# Altium footprint library 3d_design_approx.PcbLib: 32 footprints (part 1 of 2)
Each footprint in its own frame and in the unit in brackets; x right, y up, seen from the top. Pads: shape width x height; smd on the part's side, far side on the other; paste and mask are expansions set on the pad; w line width, h text height; cw(c..) or ccw(c..) is an arc to the next point about the centre after c.
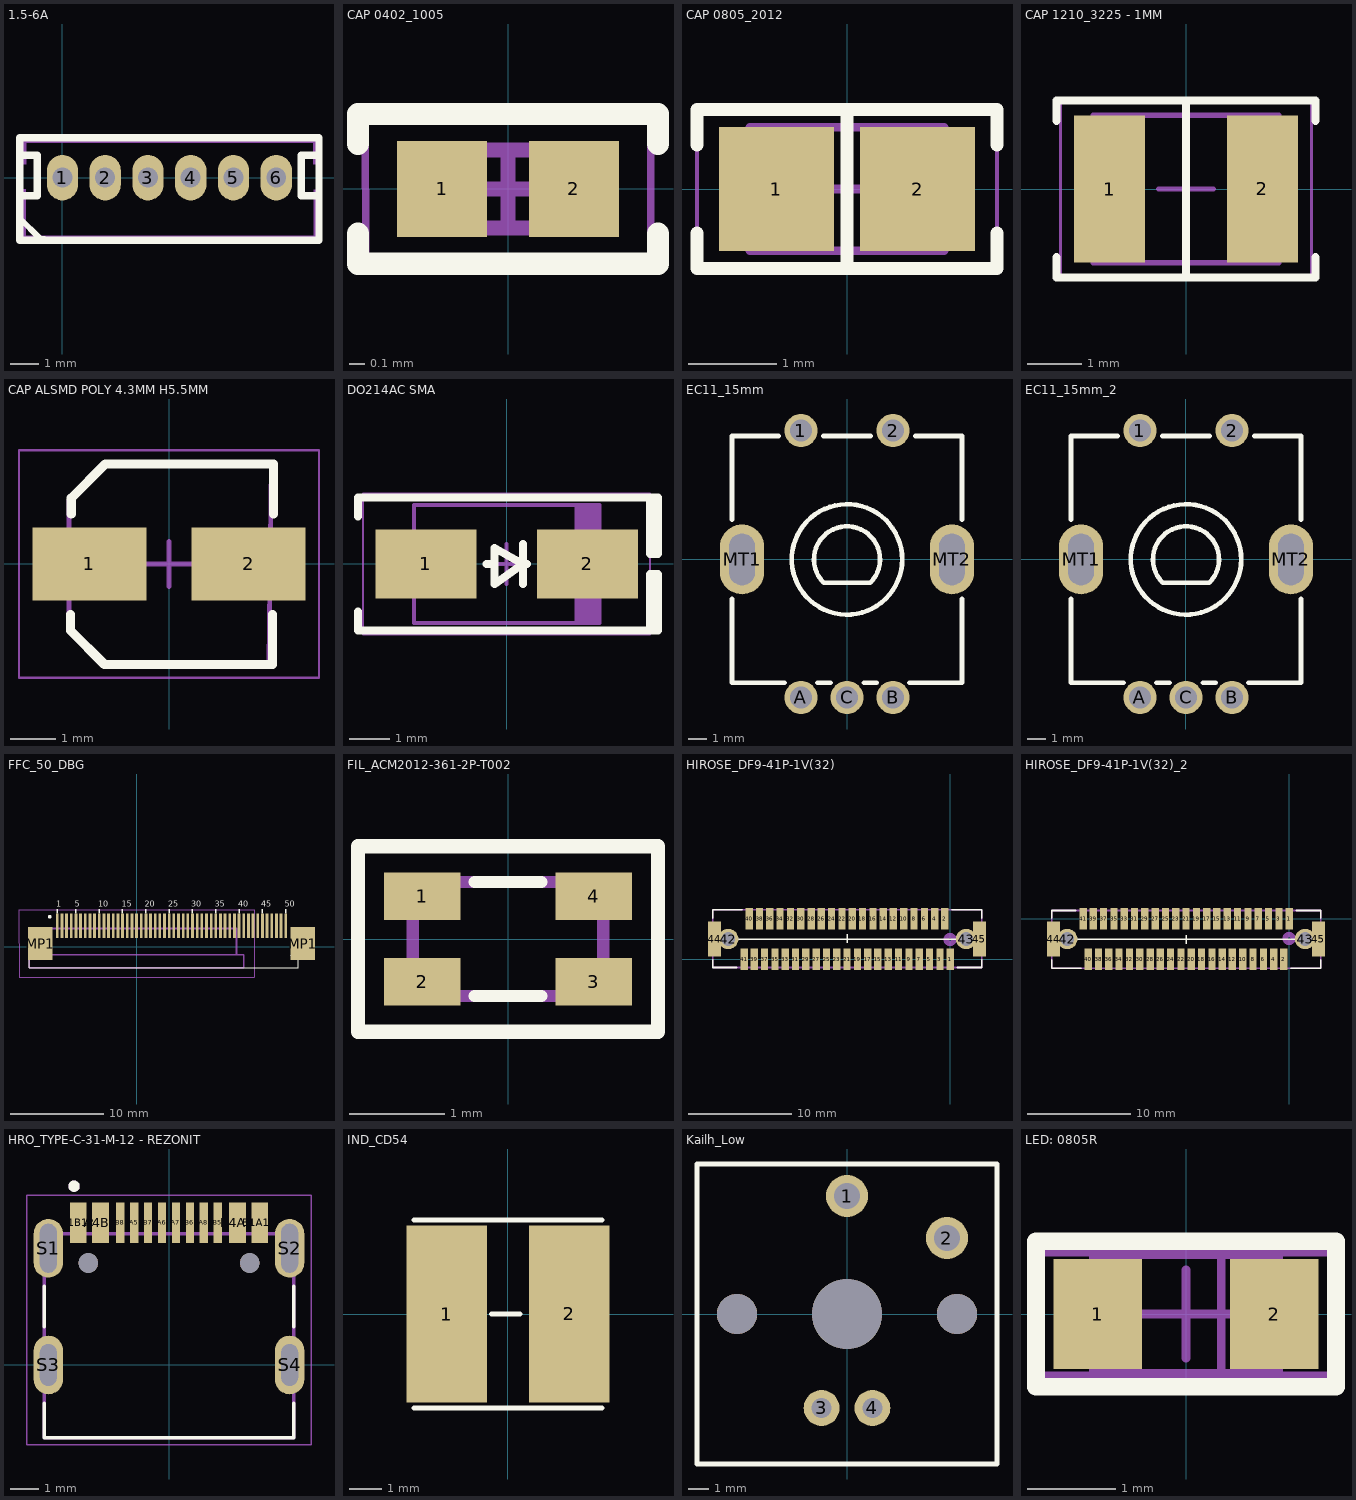
[diagram p0: the footprints below, top view; thin cyan lines are the x and y axes]

## 1.5-6A [mm]
pads (6):
  oval 1.1x1.6 hole 0.7: 1(0,0) 2(1.5,0) 3(3,0) 4(4.5,0) 5(6,0) 6(7.5,0)
Top Overlay:
  lines w0.203: -1.524,-1.397 -0.762,-2.159 -0.635,-2.159
  lines w0.254: -1.5,-0.64 -0.88,-0.64 -0.88,0.781 -1.5,0.781 ; -1.5,1.4 -1.5,-2.2 9,-2.2 9,1.4 -1.48,1.4 ; 9,-0.64 8.38,-0.64 8.38,0.781 9,0.781
Mechanical 15:
  region: -1.47,-0.41 -1.47,-2.2 9,-2.2 9,-0.42 8.81,-0.42 8.81,-2.04 -1.28,-2.04 -1.28,-0.41
  region: -1.47,0.46 -1.47,1.4 9,1.4 9,0.46 8.8,0.46 8.8,1.22 -1.27,1.22 -1.27,0.46
3D body: height 6, standoff 0, extent -1.4,-2.1 8.9,1.3

## CAP 0402_1005 [mm]
pads (2):
  rect 0.6x0.64 smd: 1(-0.44,0) 2(0.44,0)
Top Overlay:
  lines w0.15: -1,-0.3 -1,-0.5 1,-0.5 1,-0.3 ; -1,0.3 -1,0.5 1,0.5 1,0.3
Mechanical 13:
  lines w0.1: -0.515,-0.26 -0.515,0.26 0.515,0.26 0.515,-0.26 -0.515,-0.26
Mechanical 15:
  lines w0.05: -0.95,-0.5 -0.95,0.5 0.95,0.5 0.95,-0.5 -0.95,-0.5
  lines w0.1: -0.26,0 0.26,0 ; 0,-0.26 0,0.26
3D body "0402 cap.STEP": height 0.52, standoff 0, extent -0.5,-0.262 0.5,0.262

## CAP 0805_2012 [mm]
pads (2):
  rect 1.3x1.4 smd: 1(-0.8,0) 2(0.8,0)
Top Overlay:
  lines w0.15: -1.7,-0.5 -1.7,-0.9 1.7,-0.9 1.7,-0.5 ; -1.7,0.5 -1.7,0.9 1.7,0.9 1.7,0.5 ; 0,-0.9 0,0.9
Mechanical 13:
  lines w0.1: -1.1,-0.7 1.1,-0.7 1.1,0.7 -1.1,0.7 -1.1,-0.7
Mechanical 15:
  lines w0.05: -1.7,-0.95 1.7,-0.95 1.7,0.95 -1.7,0.95 -1.7,-0.95
  lines w0.1: -0.5,0 0.5,0 ; 0,-0.5 0,0.5
3D body "0805 cap.STEP": height 1.26, standoff -0.02, extent -1,-0.637 1,0.637

## CAP 1210_3225 - 1MM [mm]
pads (2):
  rect 1.3x2.7 smd: 1(-1.4,0) 2(1.4,0)
Top Overlay:
  lines w0.15: -2.375,-1.25 -2.375,-1.625 2.375,-1.625 2.375,-1.25 ; -2.375,1.25 -2.375,1.625 2.375,1.625 2.375,1.25 ; 0,-1.625 0,1.625
Mechanical 13:
  lines w0.1: -1.7,-1.35 1.7,-1.35 1.7,1.35 -1.7,1.35 -1.7,-1.35
Mechanical 15:
  lines w0.05: -2.3,-1.6 2.3,-1.6 2.3,1.6 -2.3,1.6 -2.3,-1.6
  lines w0.1: -0.5,0 0.5,0 ; 0,-0.5 0,0.5
3D body "CAP 1210-1mm.STEP": height 1, standoff 0, extent -1.6,-1.25 1.6,1.25

## CAP ALSMD POLY 4.3MM H5.5MM [mm]
pads (2):
  rect 2.5x1.6 smd: 1(-1.75,0) 2(1.75,0)
Top Overlay:
  lines w0.2: -2.17,-1.112 -2.17,-1.462 -1.42,-2.212 2.28,-2.212 2.28,-1.112 ; -2.15,1.1 -2.15,1.45 -1.4,2.2 2.3,2.2 2.3,1.1
Mechanical 13:
  lines w0.1: -2.2,-1.4 -1.4,-2.2 2.2,-2.2 2.25,2.2 -1.4,2.2 -2.2,1.4 -2.2,-1.4
Mechanical 15:
  lines w0.05: -3.3,-2.5 -3.3,2.5 3.3,2.5 3.3,-2.5 -3.3,-2.5
  lines w0.1: -0.5,0 0.5,0 ; 0,-0.5 0,0.5
3D body "CAP ALSMD - POLY - 4.3 x 4.3 x 5.5.step": height 5.5, standoff 0, extent -2.3,-2.2 2.3,2.2

## DO214AC SMA [mm]
pads (2):
  rect 2.5x1.7 smd: 1(-2,0) 2(2,0)
Top Overlay:
  lines w0.2: -3.683,-1.175 -3.683,-1.651 3.75,-1.651 3.75,-0.254 3.556,-0.254 3.556,-1.651 ; -3.683,1.175 -3.683,1.651 3.75,1.651 3.75,0.254 3.556,0.254 3.556,1.651 ; -0.5,0 -0.3,0 ; 0.4,-0.5 0.4,0.5 ; 0.5,0 0.4,0 ; 0.4,0 -0.3,0.4 -0.3,-0.5 0.4,0
Mechanical 13:
  rectangle: 1.681,-1.46 2.3,1.46
  lines w0.1: -2.3,-1.46 -2.3,1.46 2.3,1.46 2.3,-1.46 -2.3,-1.46
Mechanical 15:
  lines w0.05: -3.556,-1.75 -3.556,1.75 3.556,1.75 3.556,-1.75 -3.556,-1.75
  lines w0.1: -0.5,0 0.5,0 ; 0,-0.5 0,0.5
3D body "SMA.STEP": height 2.4, standoff 0, extent -2.6,-1.375 2.6,1.375

## EC11_15mm [mm]
pads (7):
  round 1.8 hole 1.2: 1(-2.5,7) 2(2.5,7) A(-2.5,-7.5) B(2.5,-7.5) C(0,-7.5)
  oval 2.4x3.8 hole 1.4 slot 2.8 at 90 deg: MT1(-5.7,0) MT2(5.7,0)
Top Overlay:
  circle w0.254: c0,0 r3
  lines w0.254: -6.25,-2.15 -6.25,-6.7 -3.4,-6.7 ; -6.25,2.15 -6.25,6.7 -3.7,6.7 ; -1.6,-6.7 -0.9,-6.7 ; -1.275,6.7 1.275,6.7 ; 0.92,-6.7 1.62,-6.7 ; 3.4,-6.7 6.25,-6.7 6.25,-2.15 ; 3.7,6.7 6.25,6.7 ; 6.25,2.15 6.25,6.7 ; -1.27,-1.27 cw(c0,0) 1.27,-1.27 -1.27,-1.27
3D body "EC11B-SW-Vert-15F-blue.step": height 21.9, standoff -3.5, extent -6,-7.675 6,7.25

## EC11_15mm_2 [mm]
pads (7):
  round 1.8 hole 1.2: 1(-2.5,7) 2(2.5,7) A(-2.5,-7.5) B(2.5,-7.5) C(0,-7.5)
  oval 2.4x3.8 hole 1.4 slot 2.8 at 90 deg: MT1(-5.7,0) MT2(5.7,0)
Top Overlay:
  circle w0.254: c0,0 r3
  lines w0.254: -6.25,-2.15 -6.25,-6.7 -3.4,-6.7 ; -6.25,2.15 -6.25,6.7 -3.7,6.7 ; -1.6,-6.7 -0.9,-6.7 ; -1.275,6.7 1.275,6.7 ; 0.92,-6.7 1.62,-6.7 ; 3.4,-6.7 6.25,-6.7 6.25,-2.15 ; 3.7,6.7 6.25,6.7 ; 6.25,2.15 6.25,6.7 ; -1.27,-1.27 cw(c0,0) 1.27,-1.27 -1.27,-1.27
3D body "EC11B-SW-Vert-15F-blue.step": height 21.9, standoff -3.5, extent -6,-7.675 6,7.25

## FFC_50_DBG [mm]
pads (52):
  rect 0.3x2.6 smd paste+0 mask+0.102: 1(-8.5,2.25) 2(-8,2.25) 3(-7.5,2.25) 4(-7,2.25) 5(-6.5,2.25) 6(-6,2.25) 7(-5.5,2.25) 8(-5,2.25) 9(-4.5,2.25) 10(-4,2.25) 11(-3.5,2.25) 12(-3,2.25) 13(-2.5,2.25) 14(-2,2.25) 15(-1.5,2.25) 16(-1,2.25) 17(-0.5,2.25) 18(0,2.25) 19(0.5,2.25) 20(1,2.25) 21(1.5,2.25) 22(2,2.25) 23(2.5,2.25) 24(3,2.25) 25(3.5,2.25) 26(4,2.25) 27(4.5,2.25) 28(5,2.25) 29(5.5,2.25) 30(6,2.25) 31(6.5,2.25) 32(7,2.25) 33(7.5,2.25) 34(8,2.25) 35(8.5,2.25) 36(9,2.25) 37(9.5,2.25) 38(10,2.25) 39(10.5,2.25) 40(11,2.25) 41(11.5,2.25) 42(12,2.25) 43(12.5,2.25) 44(13,2.25) 45(13.5,2.25) 46(14,2.25) 47(14.5,2.25) 48(15,2.25) 49(15.5,2.25) 50(16,2.25)
  rect 2.65x3.5 smd: MP1(-10.312,0.356) MP1(17.812,0.356)
Top Overlay:
  lines w0.1: -10.7,-0.85 -11.5,-0.85 -11.5,-2.25 17.348,-2.25 ; 16.548,-0.886 17.348,-0.886 17.348,-2.286
  lines w0.152: -8.509,3.607 -8.509,4.013 ; -6.509,3.607 -6.509,4.013 ; -4.009,3.607 -4.009,4.013 ; -1.509,3.607 -1.509,4.013 ; 0.991,3.607 0.991,4.013 ; 3.491,3.607 3.491,4.013 ; 5.991,3.607 5.991,4.013 ; 8.491,3.607 8.491,4.013 ; 10.991,3.607 10.991,4.013 ; 13.491,3.607 13.491,4.013 ; 15.991,3.607 15.991,4.013
  lines w0.2: -9.296,3.126 cw(c-9.296,3.226) -9.296,3.326 cw(c-9.296,3.226) -9.296,3.126
  text "50" at 15.889,4.293 h0.64
  text "45" at 13.389,4.293 h0.64
  text "40" at 10.889,4.293 h0.64
  text "35" at 8.389,4.293 h0.64
  text "30" at 5.889,4.293 h0.64
  text "25" at 3.389,4.293 h0.64
  text "20" at 0.889,4.293 h0.64
  text "15" at -1.611,4.293 h0.64
  text "10" at -4.111,4.293 h0.64
  text "5" at -6.611,4.293 h0.64
  text "1" at -8.611,4.293 h0.64
Mechanical 13:
  lines w0.2: -11.5,-2.25 -11.5,-0.85 11.5,-0.85 11.5,-2.25 -11.5,-2.25 ; -10.7,-0.85 -10.7,1.95 10.7,1.95 10.7,-0.85 -10.7,-0.85
Mechanical 15:
  lines w0.1: -12.6,-3.25 -12.6,3.95 12.6,3.95 12.6,-3.25 -12.6,-3.25

## FIL_ACM2012-361-2P-T002 [mm]
pads (4):
  rect 0.8x0.5 smd: 1(-0.9,0.45) 2(-0.9,-0.45) 3(0.9,-0.45) 4(0.9,0.45)
Top Overlay:
  lines w0.127: -0.35,-0.6 0.35,-0.6 ; -0.35,0.6 0.35,0.6
  lines w0.15: -1.575,-0.975 1.575,-0.975 1.575,0.975 -1.575,0.975 -1.575,-0.975
Mechanical 1:
  circle w0: c-0.8,0.4 r0.1
  lines w0.127: -1,-0.6 1,-0.6 1,0.6 -1,0.6 -1,-0.6
3D body "User Library-ACM2012-2P.STEP": height 1.3, standoff 0, extent -1,-0.6 1,0.6

## HIROSE_DF9-41P-1V(32) [mil]
pads (45):
  rect 28x82 smd: 1(0,0) 2(-20,154) 3(-39,0) 4(-59,154) 5(-79,0) 6(-98,154) 7(-118,0) 8(-138,154) 9(-157,0) 10(-177,154) 11(-197,0) 12(-217,154) 13(-236,0) 14(-256,154) 15(-276,0) 16(-295,154) 17(-315,0) 18(-335,154) 19(-354,0) 20(-374,154) 21(-394,0) 22(-413,154) 23(-433,0) 24(-453,154) 25(-472,0) 26(-492,154) 27(-512,0) 28(-531,154) 29(-551,0) 30(-571,154) 31(-591,0) 32(-610,154) 33(-630,0) 34(-650,154) 35(-669,0) 36(-689,154) 37(-709,0) 38(-728,154) 39(-748,0) 40(-768,154) 41(-787,0)
  round 78 hole 52: 42(-848,77) 43(61,77)
  rect 51x134 smd: 44(-900,77) 45(112,77)
Top Overlay:
  lines w5: -848,77 61,77 ; -393.7,62.99 -393.7,94.49
  lines w6: -907,-3 -907,-32 -815,-32 ; -907,157 -907,188 -795,188 ; 7,188 120,188 120,157 ; 27,-32 120,-32 120,-3
Mechanical 13:
  lines w6: -907,-32 120,-32 120,188 -907,188 -907,-32
  lines w20: 0,60 ccw(c0,75) 0,90 ccw(c0,75) 0,60
3D body: height 43.31, standoff 0, extent 79.14,8.33 134.26,146.13
3D body: height 43.31, standoff 0, extent -921.26,7.87 -866.14,145.67
3D body: height 133.86, standoff 0, extent -868.11,-1.74 80.71,155.74

## HIROSE_DF9-41P-1V(32)_2 [mil]
pads (45):
  rect 28x82 smd: 1(0,0) 2(-20,-154) 3(-39,0) 4(-59,-154) 5(-79,0) 6(-98,-154) 7(-118,0) 8(-138,-154) 9(-157,0) 10(-177,-154) 11(-197,0) 12(-217,-154) 13(-236,0) 14(-256,-154) 15(-276,0) 16(-295,-154) 17(-315,0) 18(-335,-154) 19(-354,0) 20(-374,-154) 21(-394,0) 22(-413,-154) 23(-433,0) 24(-453,-154) 25(-472,0) 26(-492,-154) 27(-512,0) 28(-531,-154) 29(-551,0) 30(-571,-154) 31(-591,0) 32(-610,-154) 33(-630,0) 34(-650,-154) 35(-669,0) 36(-689,-154) 37(-709,0) 38(-728,-154) 39(-748,0) 40(-768,-154) 41(-787,0)
  round 78 hole 52: 42(-848,-77) 43(61,-77)
  rect 51x134 smd: 44(-900,-77) 45(112,-77)
Top Overlay:
  lines w5: -848,-77 61,-77 ; -393.7,-94.49 -393.7,-62.99
  lines w6: -907,-157 -907,-188 -795,-188 ; -907,3 -907,32 -815,32 ; 7,-188 120,-188 120,-157 ; 27,32 120,32 120,3
Mechanical 13:
  lines w6: -907,-188 120,-188 120,32 -907,32 -907,-188
  lines w20: 0,-90 ccw(c0,-75) 0,-60 ccw(c0,-75) 0,-90
3D body: height 43.31, standoff 0, extent 79.14,-146.13 134.26,-8.33
3D body: height 43.31, standoff 0, extent -921.26,-145.67 -866.14,-7.87
3D body: height 133.86, standoff 0, extent -868.11,-155.74 80.71,1.74

## HRO_TYPE-C-31-M-12 - REZONIT [mm]
pads (18):
  rect 0.6x1.45 smd: A1B12(-3.25,5.095) A4B9(-2.45,5.095) B1A12(3.25,5.095) B4A9(2.45,5.095)
  rect 0.3x1.45 smd mask+0.102: A5(-1.25,5.095) A6(-0.25,5.095) A7(0.25,5.095) A8(1.25,5.095) B5(1.75,5.095) B6(0.75,5.095) B7(-0.75,5.095) B8(-1.75,5.095)
  oval 1.05x2.1 hole 0.6 slot 1.75 at 90 deg: S1(-4.32,4.18) S2(4.32,4.18)
  oval 1.05x2.1 hole 0.6 slot 1.5 at 90 deg: S3(-4.32,0) S4(4.32,0)
  round 0.7 hole 0.7 unplated: ""(-2.89,3.65) ""(2.89,3.65)
Top Overlay:
  circle w0.2: c-3.4,6.4 r0.1
  lines w0.127: -4.47,-1.37 -4.47,-2.6 4.47,-2.6 4.47,-1.37 ; -4.47,1.37 -4.47,2.81 ; 4.47,1.37 4.47,2.81
Mechanical 13:
  circle w0.2: c-3.4,6.4 r0.1
  lines w0.127: -4.47,-2.6 4.47,-2.6 4.47,4.7 -4.47,4.7 -4.47,-2.6
Mechanical 15:
  lines w0.05: -5.095,-2.85 5.095,-2.85 5.095,6.07 -5.095,6.07 -5.095,-2.85
3D body "step_temp.STEP": height 3.31, standoff -0.99, extent -4.47,-2.6 4.47,5.305

## IND_CD54 [mm]
pads (2):
  rect 2.5x5.5 smd: 1(-1.905,0) 2(1.905,0)
Top Overlay:
  lines w0.152: -2.921,-2.921 2.921,-2.921 ; -2.921,2.921 2.921,2.921 ; -0.508,0 0.381,0

## Kailh_Low [mm]
pads (7):
  round 2.1 hole 1.3: 1(0,5.9) 2(5,3.8)
  round 1.8 hole 1: 3(-1.27,-4.699) 4(1.27,-4.699)
  round 2 hole 2 unplated: ""(-5.5,0) ""(5.5,0)
  round 3.5 hole 3.5 unplated: ""(0,0)
Top Overlay:
  lines w0.254: -7.5,-7.5 -7.5,7.5 7.5,7.5 7.5,-7.5 -7.5,-7.5
3D body "Kailh Choc Low Profile Switch.step": height 8, standoff -3, extent -7.5,-7.5 7.5,7.5

## LED: 0805R [mm]
pads (2):
  rect 1x1.25 smd: 1(-1,0) 2(1,0)
Top Overlay:
  lines w0.2: -1.7,-0.825 1.7,-0.825 1.7,0.825 -1.7,0.825 -1.7,-0.825
Mechanical 1:
  lines w0.1: 0.4,-0.675 0.4,0.675 ; -1.05,-0.675 -1.05,0.675 1.05,0.675 1.05,-0.675 -1.05,-0.675
Mechanical 15:
  lines w0.1: -0.5,0 0.5,0 ; 0,-0.5 0,0.5 ; -1.7,-0.7 -1.7,0.7 1.7,0.7 1.7,-0.7 -1.7,-0.7
3D body "User Library-CHIPLED-0805.STEP": height 0.9, standoff -0.01, extent -1.05,-0.675 1.05,0.675